# EAGLE library part 9-1415018-1 (library Relays)
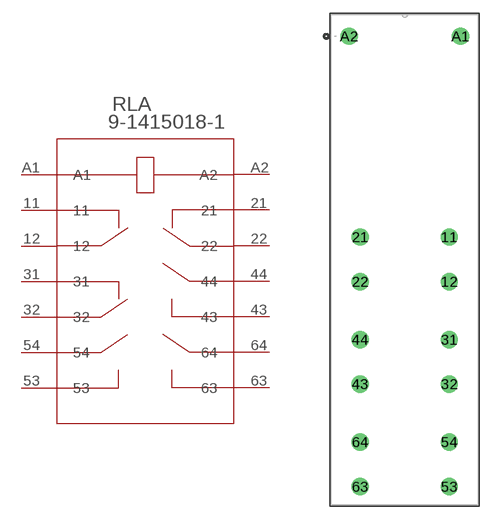
[diagram p61: symbol with the pads of RELAY14_SR6A; footprint RELAY14_SR6A]

Designator prefix RLA

## 9-1415018-1 (BUILT_BY: EMA_UL_Team; CATEGORY: Power Relays; CONTACT_ARRANGEMENT: 3 Form A (NO) + 3 Form B (NC); COPYRIGHT: Copyright (C) 2016 Accelerated Designs. All rights reserved; DESCRIPTION: V23050-A1110-A533; MANUFACTURER_PART_NUMBER: 9-1415018-1; MAXIMUM_SWITCHING_CURRENT: -; MAXIMUM_SWITCHING_VOLTAGE: -; PART_STATUS: active; PRODUCT_TYPE: -; RELAY_TYPE: -; SERIES: SCHRACK Force Guided Relay SR6 A/B/C/V; TE_PART_NUMBER: V23050A1110A533 (9-1415018-1); VENDOR: TE Connectivity)  [RELAY14_SR6A]
11  11  pas
12  12  pas
21  21  pas
22  22  pas
31  31  pas
32  32  pas
43  43  pas
44  44  pas
53  53  pas
54  54  pas
63  63  pas
64  64  pas
A1  A1  pas
A2  A2  pas

## Footprint RELAY14_SR6A (pad centres in mm)
drill 1.295 pad 1.803: 11 11.252,-22.504; 12 11.252,-27.508; 21 1.245,-22.504; 22 1.245,-27.508; 31 11.252,-34.011; 32 11.252,-38.989; 43 1.245,-38.989; 44 1.245,-34.011; 53 11.252,-50.495; 54 11.252,-45.491; 63 1.245,-50.495; 64 1.245,-45.491; A1 12.497,0; A2 0,0